# EAGLE library part TLV320AIC3104 (library CircuitCo)
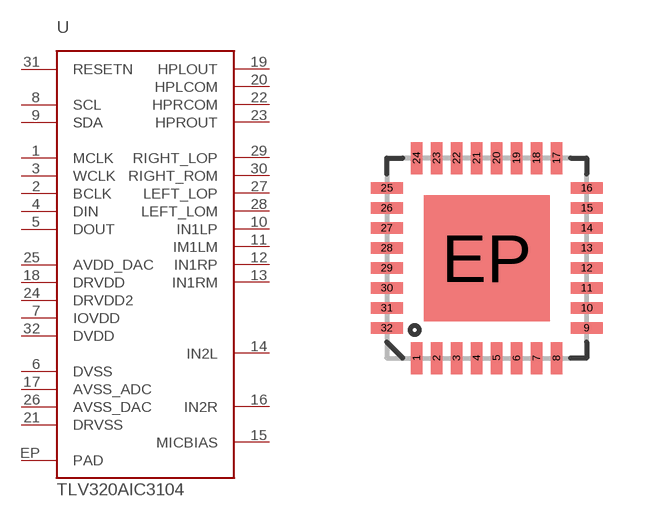
[diagram p0: symbol with the pads of QFN-32; footprint QFN-32]

Designator prefix -

## TLV320AIC3104  [QFN-32]
1  MCLK
2  BCLK
3  WCLK
4  DIN
5  DOUT
6  DVSS
7  IOVDD
8  SCL
9  SDA
10  IN1LP
11  IM1LM
12  IN1RP
13  IN1RM
14  IN2L
15  MICBIAS
16  IN2R
17  AVSS_ADC
18  DRVDD
19  HPLOUT
20  HPLCOM
21  DRVSS
22  HPRCOM
23  HPROUT
24  DRVDD2
25  AVDD_DAC
26  AVSS_DAC
27  LEFT_LOP
28  LEFT_LOM
29  RIGHT_LOP
30  RIGHT_ROM
31  RESETN
32  DVDD
EP  PAD

## Footprint QFN-32 (pad centres in mm)
smd 0.285 x 0.8: 1 -1.75,-2.5; 2 -1.25,-2.5; 3 -0.75,-2.5; 4 -0.25,-2.5; 5 0.25,-2.5; 6 0.75,-2.5; 7 1.25,-2.5; 8 1.75,-2.5; 17 1.75,2.5; 18 1.25,2.5; 19 0.75,2.5; 20 0.25,2.5; 21 -0.25,2.5; 22 -0.75,2.5; 23 -1.25,2.5; 24 -1.75,2.5
smd 0.8 x 0.285: 9 2.5,-1.75; 10 2.5,-1.25; 11 2.5,-0.75; 12 2.5,-0.25; 13 2.5,0.25; 14 2.5,0.75; 15 2.5,1.25; 16 2.5,1.75; 25 -2.5,1.75; 26 -2.5,1.25; 27 -2.5,0.75; 28 -2.5,0.25; 29 -2.5,-0.25; 30 -2.5,-0.75; 31 -2.5,-1.25; 32 -2.5,-1.75
smd 3.15 x 3.15: EP 0,0